# Altium footprint library VESC_DEVICE.PcbLib: 39 footprints (part 2 of 3)
Each footprint in its own frame and in the unit in brackets; x right, y up, seen from the top. Pads: shape width x height; smd on the part's side, far side on the other; paste and mask are expansions set on the pad; w line width, h text height; cw(c..) or ccw(c..) is an arc to the next point about the centre after c.
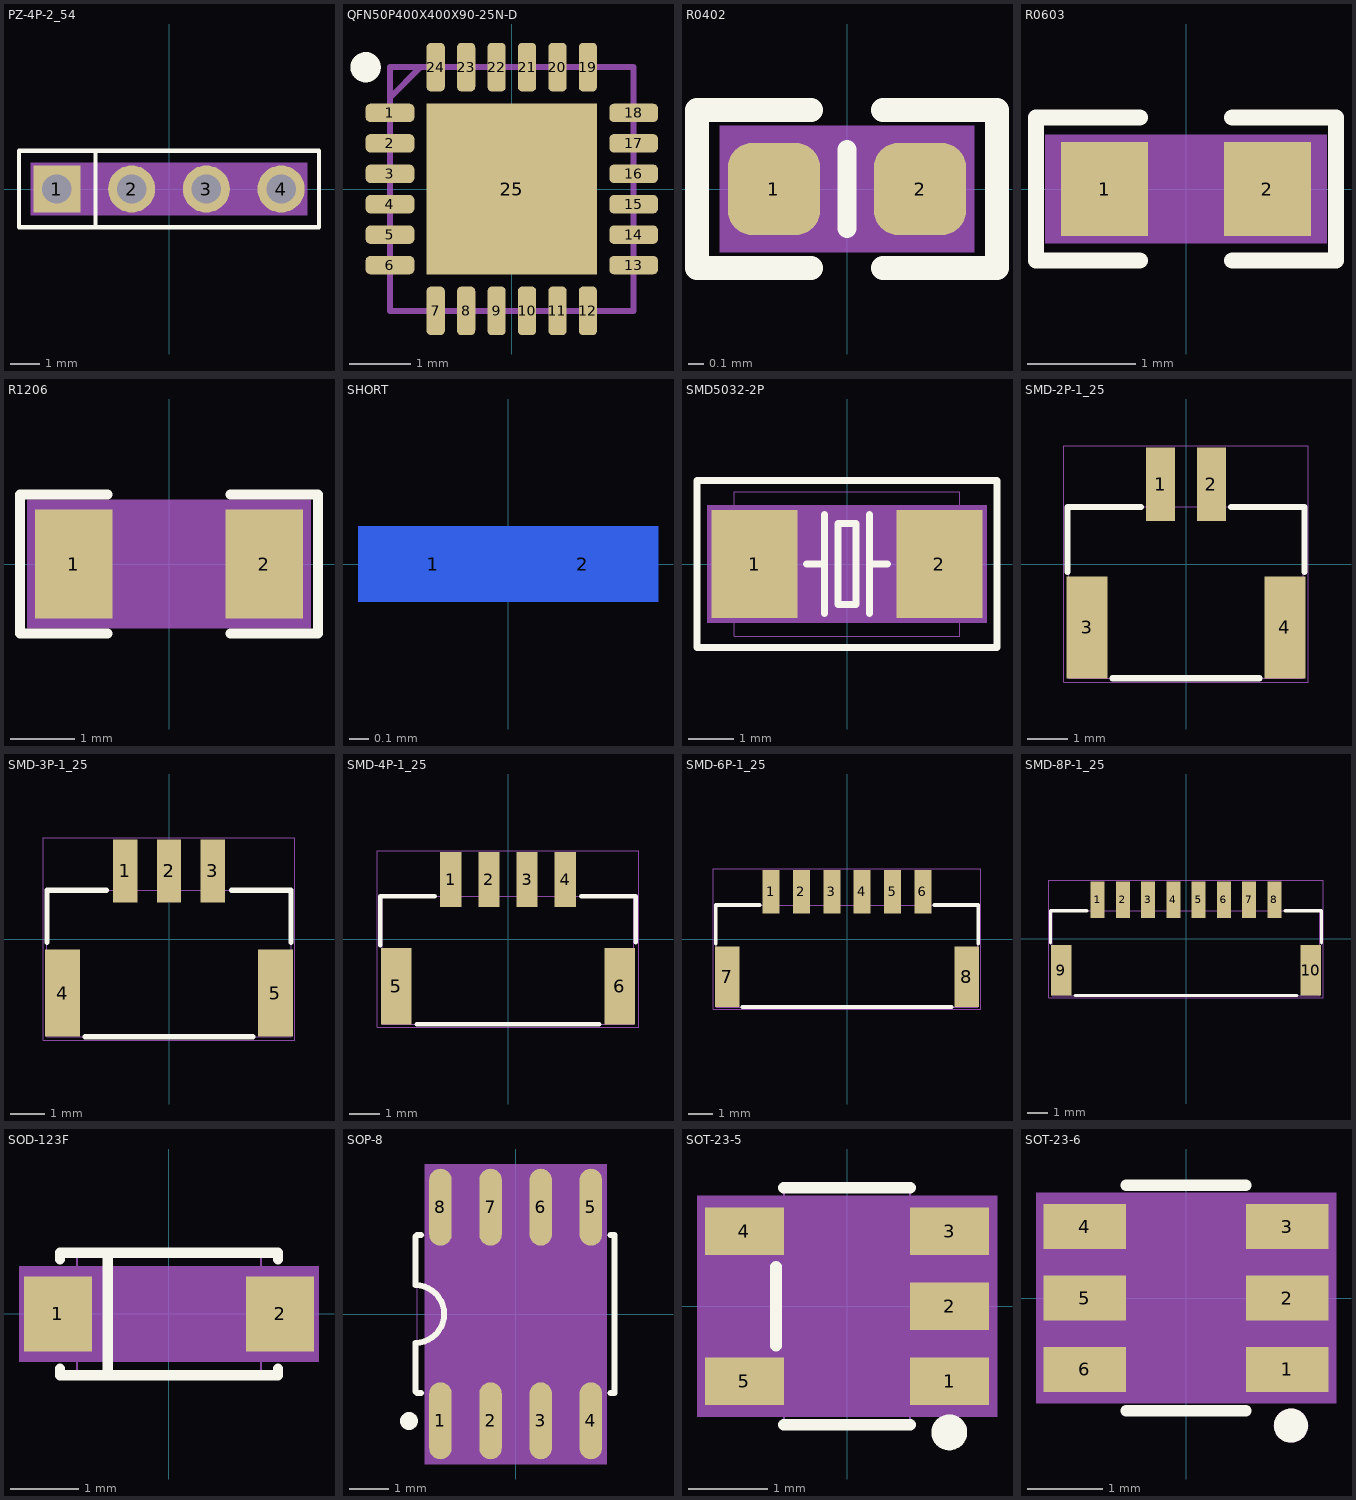
[diagram p1: the footprints below, top view; thin cyan lines are the x and y axes]

## PZ-4P-2_54 [mm] "PZ-4P-2_54"
pads (4):
  rect 1.6x1.6 hole 1: 1(-3.81,0)
  round 1.6 hole 1: 2(-1.27,0) 3(1.27,0) 4(3.81,0)
Top Overlay:
  lines w0.15: -2.5,-1.3 -2.5,1.3 ; -5.1,-1.3 -5.1,1.3 5.1,1.3 5.1,-1.3 -5.1,-1.3
Top 3D Body:
  region: -4.7,-0.9 -4.7,0.9 4.7,0.9 4.7,-0.9
Mechanical 9:
  text "1" at -3.6,0.208 h0.64
  text "3" at 1.4,0.108 h0.64
  text "2" at -1,0.208 h0.64
  text "4" at 4,0.108 h0.64
Top Assembly:
  lines w0.025: -5.08,-1.27 -5.08,1.27 5.08,1.27 5.08,-1.27 -5.08,-1.27
3D body "dNjH-H1.step": height 8.54, standoff -3, extent -5.08,-1.33 5.09,1.33

## QFN50P400X400X90-25N-D [mm]
pads (25):
  rrect50% 0.8x0.3 smd: 1(-2,1.25) 2(-2,0.75) 3(-2,0.25) 4(-2,-0.25) 5(-2,-0.75) 6(-2,-1.25) 13(2,-1.25) 14(2,-0.75) 15(2,-0.25) 16(2,0.25) 17(2,0.75) 18(2,1.25)
  rrect50% 0.3x0.8 smd: 7(-1.25,-2) 8(-0.75,-2) 9(-0.25,-2) 10(0.25,-2) 11(0.75,-2) 12(1.25,-2) 19(1.25,2) 20(0.75,2) 21(0.25,2) 22(-0.25,2) 23(-0.75,2) 24(-1.25,2)
  rect 2.8x2.8 smd: 25(0,0)
Top Overlay:
  circle w0.25: c-2.4,2 r0.125
Mechanical 14:
  lines w0.1: -2,1.5 -1.5,2 ; -2,-2 -2,2 2,2 2,-2 -2,-2
3D body "FD6288Q.stp": height 0.9, standoff 0, extent -2.05,-2.05 2.05,2.05

## R0402 [mm] "R0402"
pads (2):
  rrect52% 0.58x0.58 smd mask+0.05: 1(-0.46,0) 2(0.46,0)
Top Overlay:
  lines w0.12: 0,-0.25 0,0.25
  lines w0.15: -0.226,-0.498 -0.945,-0.498 -0.945,0.498 -0.226,0.498 ; 0.226,-0.498 0.945,-0.498 0.945,0.498 0.226,0.498
Top 3D Body:
  region: -0.8,-0.399 0.8,-0.399 0.8,0.399 -0.8,0.399
Mechanical 9:
  text "2" at 0.432,0.254 h0.64
  text "1" at -0.432,0.254 h0.64
Top Assembly:
  lines w0.025: -0.495,-0.254 0.495,-0.254 0.495,0.254 -0.495,0.254 -0.495,-0.254
3D body "RESC1005.STEP": height 0.4, standoff 0, extent -0.5,-0.25 0.5,0.25

## R0603 [mil] "R0603"
pads (2):
  rect 31.7x34 smd: 1(-29.6,0) 2(29.6,0)
Top Overlay:
  lines w5.9: -16.8,-26 -54.5,-26 -54.5,26 -16.8,26 ; 16.8,-26 54.5,-26 54.5,26 16.8,26
Top 3D Body:
  region: -51.2,-19.7 51.2,-19.7 51.2,19.7 -51.2,19.7
Mechanical 9:
  text "2" at 59.4,-7.9 h25
  text "1" at -3.6,-7.9 h25
Top Assembly:
  lines w1: -31.5,-15.7 31.5,-15.7 31.5,15.7 -31.5,15.7 -31.5,-15.7
3D body "RESC1608X50.STEP": height 19.68, standoff 0, extent -31,-16.73 31,16.73

## R1206 [mm] "R1206"
pads (2):
  rect 1.199x1.699 smd: 1(-1.478,0) 2(1.478,0)
Top Overlay:
  lines w0.15: -0.95,-1.079 -2.311,-1.079 -2.311,1.079 -0.95,1.079 ; 0.95,-1.079 2.311,-1.079 2.311,1.079 0.95,1.079
Top 3D Body:
  region: -2.2,-1.001 2.2,-1.001 2.2,1.001 -2.2,1.001
Mechanical 9:
  text "1" at -1.224,0 h0.64
  text "2" at 1.732,0 h0.64
Top Assembly:
  lines w0.025: -1.549,-0.787 1.549,-0.787 1.549,0.787 -1.549,0.787 -1.549,-0.787
3D body: height 3.81, standoff 0, extent -2.2,-1.001 2.2,1.001

## SHORT [mil] "SHORT"
pads (2):
  rect 30x15 smd far side mask+0: 1(-14.9,0)
  rect 30x15 smd far side paste+0 mask+0: 2(14.9,0)

## SMD5032-2P [mil] "SMD5032-2P"
pads (2):
  rect 74.8x94.5 smd: 1(-80.7,0) 2(80.7,0)
Top Overlay:
  lines w5.9: -35.4,0 -23.6,0 ; -19.7,-43.3 -19.7,43.3 ; 19.7,-43.3 19.7,43.3 ; 23.6,0 35.4,0 ; -130.9,-72.8 130.9,-72.8 130.9,72.8 -130.9,72.8 -130.9,-72.8 ; -7.9,-35.4 7.9,-35.4 7.9,35.4 -7.9,35.4 -7.9,-35.4
Top 3D Body:
  region: -122,-51.2 122,-51.2 122,51.2 -122,51.2
Mechanical 9:
  text "2" at 90.6,8.2 h25
  text "1" at -74.8,12.1 h25
Top Assembly:
  lines w1: -98.4,-63 -98.4,63 98.4,63 98.4,-63 -98.4,-63
3D body "sdk1-X1.step": height 55.51, standoff 0, extent -98.39,-63 98.46,62.99

## SMD-2P-1_25 [mil] "SMD-2P-1_25"
pads (4):
  rect 27.6x70.9 smd: 1(-24.6,76.75) 2(24.6,76.75)
  rect 39.4x98.4 smd: 3(-95.5,-61.05) 4(95.5,-61.05)
Top Overlay:
  lines w5.9: -114.2,-7.85 -114.2,55.05 -43.3,55.05 ; -70.9,-110.25 70.9,-110.25 ; 43.3,55.05 114.2,55.05 114.2,-7.85
Top 3D Body:
  lines w1: -118.1,-114.15 118.1,-114.15 118.1,114.15 -118.1,114.15 -118.1,-114.15
Mechanical 9:
  text "2" at 15.4,70.85 h25
  text "1" at -39.7,74.75 h25
  text "4" at 78.4,-70.85 h25
  text "3" at -106.6,-63.05 h25
Top Assembly:
  lines w1: -113.2,-110.25 113.2,-110.25 113.2,55.05 -113.2,55.05 -113.2,-110.25
3D body "bAaJ-CN1.step": height 165.35, standoff 0, extent -112.99,-109.41 113.39,85.47

## SMD-3P-1_25 [mm] "SMD-3P-1_25"
pads (5):
  rect 0.701x1.801 smd: 1(-1.25,1.95) 2(0,1.95) 3(1.25,1.95)
  rect 1.001x2.499 smd: 4(-3.05,-1.551) 5(3.05,-1.551)
Top Overlay:
  lines w0.15: -3.5,-0.1 -3.5,1.398 -1.801,1.398 ; -2.4,-2.8 2.4,-2.8 ; 1.801,1.398 3.5,1.398 3.5,-0.1
Top 3D Body:
  lines w0.025: -3.599,-2.899 3.599,-2.899 3.599,2.899 -3.599,2.899 -3.599,-2.899
Mechanical 9:
  text "1" at -1.608,1.899 h0.64
  text "2" at -0.307,1.899 h0.64
  text "5" at 2.792,-1.901 h0.64
  text "3" at 0.891,1.8 h0.64
  text "4" at -3.409,-1.7 h0.64
Top Assembly:
  lines w0.025: -3.5,-2.8 3.5,-2.8 3.5,1.398 -3.5,1.398 -3.5,-2.8

## SMD-4P-1_25 [mm] "SMD-4P-1_25"
pads (6):
  rect 0.701x1.801 smd: 1(-1.874,1.95) 2(-0.625,1.95) 3(0.625,1.95) 4(1.874,1.95)
  rect 1.001x2.499 smd: 5(-3.675,-1.551) 6(3.675,-1.551)
Top Overlay:
  lines w0.15: -4.201,-0.199 -4.201,1.398 -2.4,1.398 ; -3,-2.8 3,-2.8 ; 2.4,1.398 4.201,1.398 4.201,-0.1
Top 3D Body:
  lines w0.025: -4.3,-2.899 4.3,-2.899 4.3,2.899 -4.3,2.899 -4.3,-2.899
Mechanical 9:
  text "1" at -2.207,1.8 h0.64
  text "4" at 1.491,1.8 h0.64
  text "6" at 3.292,-1.602 h0.64
  text "5" at -4.008,-1.7 h0.64
  text "3" at 0.292,1.8 h0.64
  text "2" at -0.907,1.8 h0.64
Top Assembly:
  lines w0.025: -4.125,-2.8 4.125,-2.8 4.125,1.398 -4.125,1.398 -4.125,-2.8

## SMD-6P-1_25 [mil] "SMD-6P-1_25"
pads (8):
  rect 27.6x70.9 smd: 1(-123,76.75) 2(-73.8,76.75) 3(-24.6,76.75) 4(24.6,76.75) 5(73.8,76.75) 6(123,76.75)
  rect 39.4x98.4 smd: 7(-193.9,-61.05) 8(193.9,-61.05)
Top Overlay:
  lines w5.9: -212.6,-7.85 -212.6,55.05 -141.7,55.05 ; -169.3,-110.25 169.3,-110.25 ; 141.7,55.05 212.6,55.05 212.6,-7.85
Top 3D Body:
  lines w1: -216.5,-114.15 -216.5,114.15 216.5,114.15 216.5,-114.15 -216.5,-114.15
Mechanical 9:
  text "7" at -205,-74.85 h25
  text "8" at 180.8,-66.95 h25
  text "2" at -86.9,66.95 h25
  text "3" at -39.7,66.95 h25
  text "5" at 58.7,66.95 h25
  text "6" at 109.9,66.95 h25
  text "1" at -138.1,66.95 h25
  text "4" at 11.5,66.95 h25
Top Assembly:
  lines w1: -211.6,-110.25 -211.6,55.05 211.6,55.05 211.6,-110.25 -211.6,-110.25

## SMD-8P-1_25 [mil] "SMD-8P-1_25"
pads (10):
  rect 27.6x70.9 smd: 1(-172.2,76.75) 2(-123,76.75) 3(-73.8,76.75) 4(-24.6,76.75) 5(24.6,76.75) 6(73.8,76.75) 7(123,76.75) 8(172.2,76.75)
  rect 39.4x98.4 smd: 9(-243.1,-61.05) 10(243.1,-61.05)
Top Overlay:
  lines w5.9: -263.8,-7.85 -263.8,55.05 -192.9,55.05 ; -216.5,-110.25 216.5,-110.25 ; 192.9,55.05 263.8,55.05 263.8,-7.85
Top 3D Body:
  lines w1: -267.7,-114.15 267.7,-114.15 267.7,114.15 -267.7,114.15 -267.7,-114.15
Mechanical 9:
  text "7" at 109.9,66.95 h25
  text "8" at 157.2,66.95 h25
  text "5" at 11.5,66.95 h25
  text "2" at -134.2,66.95 h25
  text "3" at -90.9,66.95 h25
  text "4" at -39.7,66.95 h25
  text "10" at 215.9,-70.85 h25
  text "6" at 62.7,66.95 h25
  text "9" at -256.2,-74.85 h25
  text "1" at -185.4,66.95 h25
Top Assembly:
  lines w1: -260.8,-110.25 260.8,-110.25 260.8,55.05 -260.8,55.05 -260.8,-110.25

## SOD-123F [mm] "SOD-123F"
pads (2):
  rect 1.001x1.1 smd: 1(-1.628,0) 2(1.628,0)
Top Overlay:
  lines w0.15: -1.6,-0.8 -1.6,-0.899 1.6,-0.899 1.6,-0.8 ; -1.6,0.8 -1.6,0.899 1.6,0.899 1.6,0.8 ; -0.899,-0.8 -0.899,0.8
Top 3D Body:
  region: -2.2,-0.701 2.2,-0.701 2.2,0.701 -2.2,0.701
Mechanical 9:
  text "2" at 1.801,-0.709 h0.64
  text "1" at -1.399,-0.709 h0.64
Top Assembly:
  lines w0.025: -1.349,-0.899 -1.349,0.899 1.349,0.899 1.349,-0.899 -1.349,-0.899
3D body "DSK310.stp": height 1.19, standoff 0, extent -1.85,-0.9 1.85,0.9

## SOP-8 [mil] "SOP-8"
pads (8):
  oval 22.4x76.8 smd: 1(-75,-106.5) 2(-25,-106.5) 3(25,-106.5) 4(75,-106.5) 5(75,106.5) 6(25,106.5) 7(-25,106.5) 8(-75,106.5)
Top Overlay:
  circle w10: c-106.37,-106.72 r3.94
  lines w5.9: -94.5,-78.7 -98.4,-78.7 -100,-77.2 -100,-28.7 ccw(c-100,0) -71.3,0 ccw(c-100,0) -100,28.7 -100,77.2 -98.4,78.7 -94.5,78.7 ; 94.5,-78.7 98.4,-78.7 98.4,78.7 94.5,78.7
Top 3D Body:
  region: -90.6,-149.6 90.6,-149.6 90.6,149.6 -90.6,149.6
Mechanical 9:
  text "4" at 102.7,-118.1 h25
  text "1" at -46.9,-118.1 h25
  text "7" at 0.3,94.5 h25
  text "6" at 51.5,94.5 h25
  text "3" at 51.5,-118.1 h25
  text "5" at 102.7,94.5 h25
  text "2" at 4.3,-118.1 h25
  text "8" at -46.9,98.4 h25
Top Assembly:
  lines w1: -98.4,-78.7 98.4,-78.7 98.4,78.7 -98.4,78.7 -98.4,-78.7
3D body "NE555DR.stp": height 68.9, standoff 0, extent -96.46,-118.11 96.46,118.11

## SOT-23-5 [mm] "SOT-23-5"
pads (5):
  rect 1.001x0.599 smd: 1(1.301,-0.95) 2(1.301,0) 3(1.301,0.95) 4(-1.301,0.95) 5(-1.301,-0.95)
Top Overlay:
  circle w0.254: c1.296,-1.597 r0.1
  lines w0.15: -0.899,-0.5 -0.899,0.5 ; -0.8,-1.501 0.8,-1.501 ; -0.8,1.501 0.8,1.501
Top 3D Body:
  region: -1.9,-1.4 1.9,-1.4 1.9,1.399 -1.9,1.399
Mechanical 9:
  text "4" at -1.199,0.193 h0.64
  text "2" at 1.501,-0.808 h0.64
  text "5" at -1.199,-1.707 h0.64
  text "1" at 1.501,-1.809 h0.64
  text "3" at 1.6,0.193 h0.64
Top Assembly:
  lines w0.025: -0.8,-1.45 0.8,-1.45 0.8,1.45 -0.8,1.45 -0.8,-1.45
3D body "XC6219B332MRN.stp": height 1.3, standoff 0, extent -1.4,-1.45 1.4,1.45

## SOT-23-6 [mm] "SOT-23-6"
pads (6):
  rect 1.1x0.599 smd: 1(1.349,-0.95) 2(1.349,0) 3(1.349,0.95) 4(-1.349,0.95) 5(-1.349,0) 6(-1.349,-0.95)
Top Overlay:
  circle w0.254: c1.398,-1.699 r0.1
  lines w0.15: -0.8,-1.501 0.8,-1.501 ; -0.8,1.501 0.8,1.501
Top 3D Body:
  region: -1.999,-1.399 1.999,-1.399 1.999,1.399 -1.999,1.399
Mechanical 9:
  text "5" at -1.199,0.208 h0.64
  text "4" at -1.199,1.209 h0.64
  text "1" at 1.501,-0.793 h0.64
  text "6" at -1.199,-0.793 h0.64
  text "3" at 1.399,1.209 h0.64
  text "2" at 1.501,0.208 h0.64
Top Assembly:
  dashed: 1.4,-1.927 1.487,-1.91 1.561,-1.861 1.61,-1.787 1.627,-1.7 1.61,-1.613 1.594,-1.588 1.561,-1.539 1.487,-1.49 1.4,-1.473 1.313,-1.49 1.239,-1.539 1.206,-1.588 1.19,-1.613 1.173,-1.7 1.19,-1.787 1.239,-1.861 1.313,-1.91
  lines w0.025: -0.8,-1.349 0.8,-1.349 0.8,1.349 -0.8,1.349 -0.8,-1.349
3D body "LMR16006XDDCR.stp": height 0.97, standoff 0, extent -1.4,-1.45 1.4,1.45